# Altium schematic symbol library Wurth Red LED.SchLib: 1 symbol
Pins are listed as number, name and electrical type; pins without a type are passive.

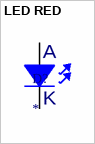
[diagram p0: symbol LED RED]

## LED RED
designator D?
footprint RED LED
pins: 1, 2
text: A; K